# Altium schematic symbol library TPD3S014DBVR.SchLib: 1 symbol
Pins are listed as number, name and electrical type; pins without a type are passive.

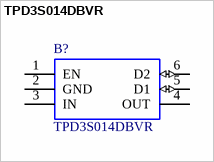
[diagram p0: symbol TPD3S014DBVR]

## TPD3S014DBVR
designator B?
Current Limit Load Sw & TVS 0.5A SOT23-6 Texas Instruments TPD3S014DBVR Load Switch IC, Current Limit Switch, 4.5  5.5V, 6-Pin, SOT-23; Geometry.Height: 1.45mm; Supplier_Name: RS; RS Part Number: 9009703P; Manufacturer_Name: Texas Instruments; Manufacturer_Part_Number: TPD3S014DBVR; Allied_Number: *; Other Part Number: *; Datasheet Link: http://www.ti.com/lit/ds/symlink/tpd3s044.pdf; 3D Package: *
footprint SOT95P280X145-6N
pins: 1 EN, 2 GND, 3 IN, 4 OUT, 5 D1 (io), 6 D2 (io)